# Altium schematic symbol library SCH - POWER - LINEAR VREG - TI TPS7A3001_DGN_8.SchLib: 1 symbol
Pins are listed as number, name and electrical type; pins without a type are passive.

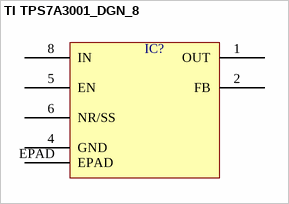
[diagram p0: symbol TI TPS7A3001_DGN_8]

## TI TPS7A3001_DGN_8
designator IC?  (value not drawn)
pins: 1 OUT, 2 FB, 4 GND, 5 EN, 6 NR/SS, 8 IN, EPAD